# EAGLE library part DZRALTE-060L080 (library hurst)
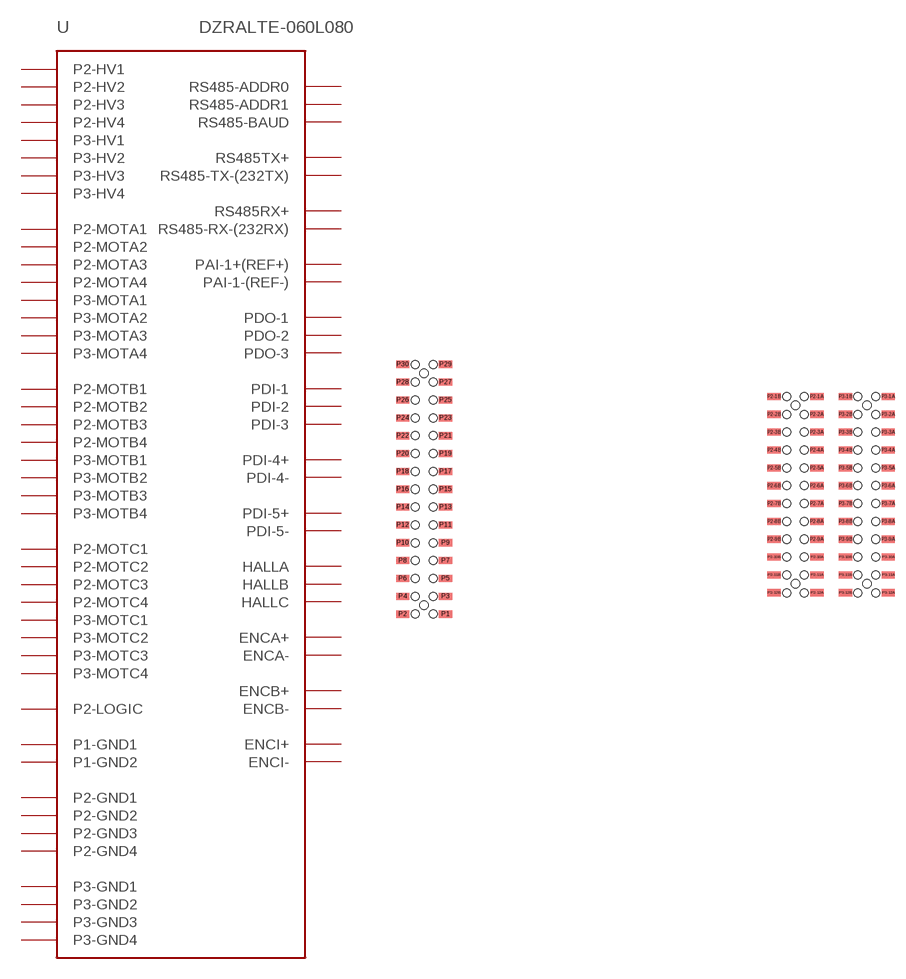
[diagram p1: symbol with the pads of DZRALTE-060L080; footprint DZRALTE-060L080]

Designator prefix -

## DZRALTE-060L080  [DZRALTE-060L080]
P1  RS485-ADDR0
P2  RS485-ADDR1
P2-1A  P2-LOGIC
P2-2A  P2-GND1
P2-2B  P2-GND3
P2-3A  P2-GND2
P2-3B  P2-GND4
P2-4A  P2-HV1
P2-4B  P2-HV2
P2-5A  P2-HV3
P2-5B  P2-HV4
P2-7A  P2-MOTC1
P2-7B  P2-MOTC2
P2-8A  P2-MOTC3
P2-8B  P2-MOTC4
P2-9A  P2-MOTB1
P2-9B  P2-MOTB2
P2-10A  P2-MOTB3
P2-10B  P2-MOTB4
P2-11A  P2-MOTA1
P2-11B  P2-MOTA2
P2-12A  P2-MOTA3
P2-12B  P2-MOTA4
P3  PAI-1+(REF+)
P3-2A  P3-GND1
P3-2B  P3-GND2
P3-3A  P3-GND3
P3-3B  P3-GND4
P3-4A  P3-HV1
P3-4B  P3-HV2
P3-5A  P3-HV3
P3-5B  P3-HV4
P3-7A  P3-MOTC1
P3-7B  P3-MOTC2
P3-8A  P3-MOTC3
P3-8B  P3-MOTC4
P3-9A  P3-MOTB1
P3-9B  P3-MOTB2
P3-10A  P3-MOTB3
P3-10B  P3-MOTB4
P3-11A  P3-MOTA1
P3-11B  P3-MOTA2
P3-12A  P3-MOTA3
P3-12B  P3-MOTA4
P4  PAI-1-(REF-)
P5  P1-GND1
P6  RS485-BAUD
P7  PDO-1
P8  PDO-2
P9  PDO-3
P10  PDI-1
P11  PDI-2
P12  PDI-3
P13  RS485-RX-(232RX)
P14  RS485RX+
P15  RS485-TX-(232TX)
P16  RS485TX+
P17  PDI-4+
P18  PDI-4-
P19  PDI-5+
P20  PDI-5-
P21  P1-GND2
P22  HALLA
P23  HALLB
P24  HALLC
P25  ENCI+
P26  ENCI-
P27  ENCA+
P28  ENCA-
P29  ENCB+
P30  ENCB-

## Footprint DZRALTE-060L080 (pad centres in mm)
smd 1.905 x 1.016: P1 8.636,-44.958; P2 2.54,-44.958; P2-1A 61.468,-13.97; P2-1B 55.372,-13.97; P2-2A 61.468,-16.51; P2-2B 55.372,-16.51; P2-3A 61.468,-19.05; P2-3B 55.372,-19.05; P2-4A 61.468,-21.59; P2-4B 55.372,-21.59; P2-5A 61.468,-24.13; P2-5B 55.372,-24.13; P2-6A 61.468,-26.67; P2-6B 55.372,-26.67; P2-7A 61.468,-29.21; P2-7B 55.372,-29.21; P2-8A 61.468,-31.75; P2-8B 55.372,-31.75; P2-9A 61.468,-34.29; P2-9B 55.372,-34.29; P2-10A 61.468,-36.83; P2-10B 55.372,-36.83; P2-11A 61.468,-39.37; P2-11B 55.372,-39.37; P2-12A 61.468,-41.91; P2-12B 55.372,-41.91; P3 8.636,-42.418; P3-1A 71.628,-13.97; P3-1B 65.532,-13.97; P3-2A 71.628,-16.51; P3-2B 65.532,-16.51; P3-3A 71.628,-19.05; P3-3B 65.532,-19.05; P3-4A 71.628,-21.59; P3-4B 65.532,-21.59; P3-5A 71.628,-24.13; P3-5B 65.532,-24.13; P3-6A 71.628,-26.67; P3-6B 65.532,-26.67; P3-7A 71.628,-29.21; P3-7B 65.532,-29.21; P3-8A 71.628,-31.75; P3-8B 65.532,-31.75; P3-9A 71.628,-34.29; P3-9B 65.532,-34.29; P3-10A 71.628,-36.83; P3-10B 65.532,-36.83; P3-11A 71.628,-39.37; P3-11B 65.532,-39.37; P3-12A 71.628,-41.91; P3-12B 65.532,-41.91; P4 2.54,-42.418; P5 8.636,-39.878; P6 2.54,-39.878; P7 8.636,-37.338; P8 2.54,-37.338; P9 8.636,-34.798; P10 2.54,-34.798; P11 8.636,-32.258; P12 2.54,-32.258; P13 8.636,-29.718; P14 2.54,-29.718; P15 8.636,-27.178; P16 2.54,-27.178; P17 8.636,-24.638; P18 2.54,-24.638; P19 8.636,-22.098; P20 2.54,-22.098; P21 8.636,-19.558; P22 2.54,-19.558; P23 8.636,-17.018; P24 2.54,-17.018; P25 8.636,-14.478; P26 2.54,-14.478; P27 8.636,-11.938; P28 2.54,-11.938; P29 8.636,-9.398; P30 2.54,-9.398
hole 1.143 at 6.858,-44.958
hole 1.143 at 6.858,-42.418
hole 1.143 at 6.858,-39.878
hole 1.143 at 6.858,-37.338
hole 1.143 at 6.858,-34.798
hole 1.143 at 6.858,-32.258
hole 1.143 at 6.858,-29.718
hole 1.143 at 6.858,-27.178
hole 1.143 at 6.858,-24.638
hole 1.143 at 6.858,-22.098
hole 1.143 at 6.858,-19.558
hole 1.143 at 6.858,-17.018
hole 1.143 at 6.858,-14.478
hole 1.143 at 6.858,-11.938
hole 1.143 at 6.858,-9.398
hole 1.143 at 4.318,-9.398
hole 1.143 at 4.318,-11.938
hole 1.143 at 4.318,-14.478
hole 1.143 at 4.318,-17.018
hole 1.143 at 4.318,-19.558
hole 1.143 at 4.318,-22.098
hole 1.143 at 4.318,-24.638
hole 1.143 at 4.318,-27.178
hole 1.143 at 4.318,-29.718
hole 1.143 at 4.318,-32.258
hole 1.143 at 4.318,-34.798
hole 1.143 at 4.318,-37.338
hole 1.143 at 4.318,-39.878
hole 1.143 at 4.318,-42.418
hole 1.143 at 4.318,-44.958
hole 1.194 at 5.588,-43.688
hole 1.194 at 5.588,-10.668
hole 1.143 at 59.69,-41.91
hole 1.143 at 59.69,-39.37
hole 1.143 at 59.69,-36.83
hole 1.143 at 59.69,-34.29
hole 1.143 at 59.69,-31.75
hole 1.143 at 59.69,-29.21
hole 1.143 at 59.69,-26.67
hole 1.143 at 59.69,-24.13
hole 1.143 at 59.69,-21.59
hole 1.143 at 59.69,-19.05
hole 1.143 at 59.69,-16.51
hole 1.143 at 59.69,-13.97
hole 1.143 at 57.15,-13.97
hole 1.143 at 57.15,-16.51
hole 1.143 at 57.15,-19.05
hole 1.143 at 57.15,-21.59
hole 1.143 at 57.15,-24.13
hole 1.143 at 57.15,-26.67
hole 1.143 at 57.15,-29.21
hole 1.143 at 57.15,-31.75
hole 1.143 at 57.15,-34.29
hole 1.143 at 57.15,-36.83
hole 1.143 at 57.15,-39.37
hole 1.143 at 57.15,-41.91
hole 1.194 at 58.42,-40.64
hole 1.143 at 69.85,-41.91
hole 1.143 at 69.85,-39.37
hole 1.143 at 69.85,-36.83
hole 1.143 at 69.85,-34.29
hole 1.143 at 69.85,-31.75
hole 1.143 at 69.85,-29.21
hole 1.143 at 69.85,-26.67
hole 1.143 at 69.85,-24.13
hole 1.143 at 69.85,-21.59
hole 1.143 at 69.85,-19.05
hole 1.143 at 69.85,-16.51
hole 1.143 at 69.85,-13.97
hole 1.143 at 67.31,-13.97
hole 1.143 at 67.31,-16.51
hole 1.143 at 67.31,-19.05
hole 1.143 at 67.31,-21.59
hole 1.143 at 67.31,-24.13
hole 1.143 at 67.31,-26.67
hole 1.143 at 67.31,-29.21
hole 1.143 at 67.31,-31.75
hole 1.143 at 67.31,-34.29
hole 1.143 at 67.31,-36.83
hole 1.143 at 67.31,-39.37
hole 1.143 at 67.31,-41.91
hole 1.194 at 68.58,-40.64
hole 1.194 at 58.42,-15.24
hole 1.194 at 68.58,-15.24